# Altium schematic symbol library QUTMS-ElectricalSystemLibrary-Jarrod.SchLib: 4 symbols
Pins are listed as number, name and electrical type; pins without a type are passive.

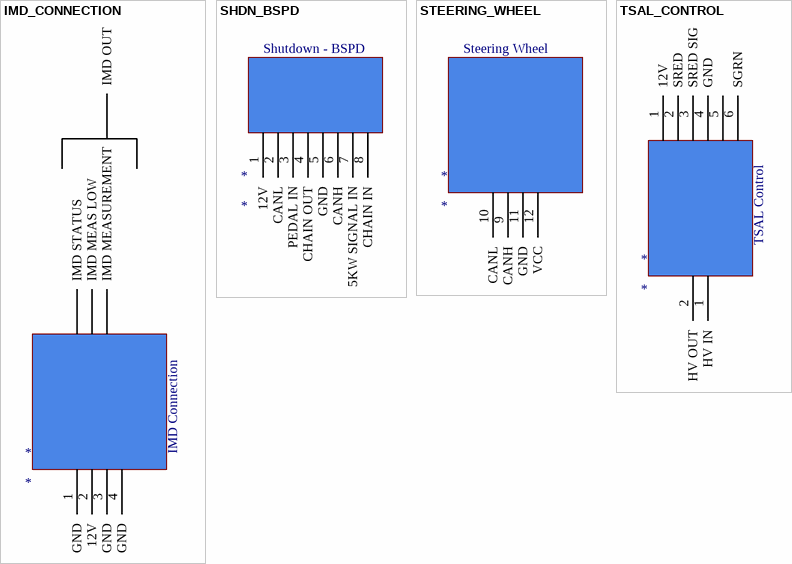
[diagram p0: symbols IMD_CONNECTION to TSAL_CONTROL]

## IMD_CONNECTION
designator *
pins: 1 GND, 2 12V, 3 GND, 4 GND, ?1 IMD MEAS LOW, ?2 IMD STATUS, ?3 IMD MEASUREMENT, ?4 IMD OUT
text: IMD Connection

## SHDN_BSPD
designator *
pins: 1 12V, 2 CANL, 3 PEDAL IN, 4 CHAIN OUT, 5 GND, 6 CANH, 7 5KW SIGNAL IN, 8 CHAIN IN
text: Shutdown - BSPD

## STEERING_WHEEL
designator *
pins: 9 CANH, 10 CANL, 11 GND, 12 VCC
text: Steering Wheel

## TSAL_CONTROL
designator *
pins: 1 12V, 1 HV IN, 2 SRED, 2 HV OUT, 3 SRED SIG, 4 GND, 5, 6 SGRN
text: TSAL Control